# EAGLE library part SIM800C (library SIM800C)
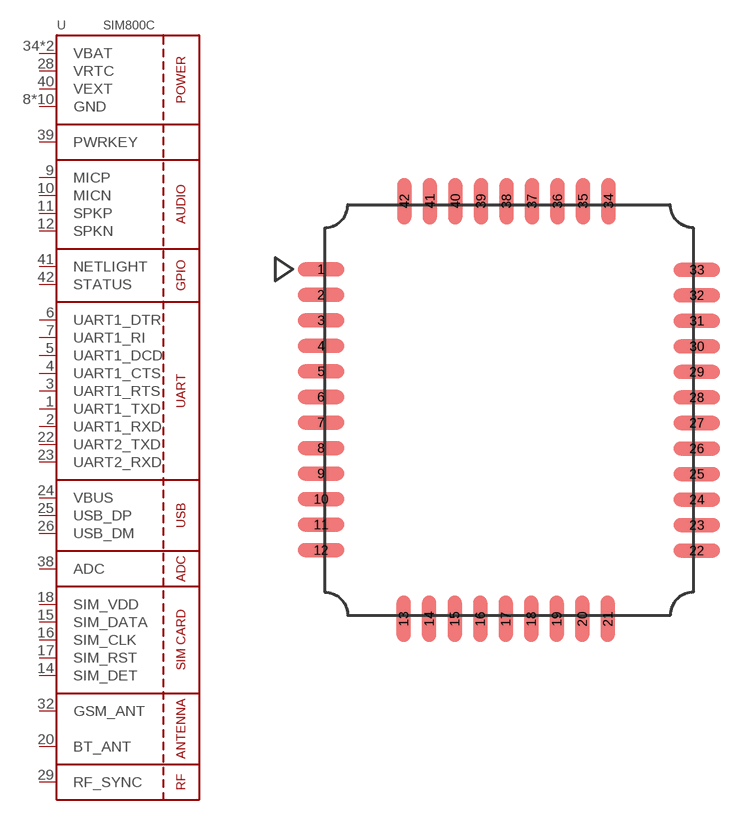
[diagram p0: symbol with the pads of SIM800C; footprint SIM800C]

Designator prefix -

## SIM800C  [SIM800C]
1  UART1_TXD  out
2  UART1_RXD  in
3  UART1_RTS  in
4  UART1_CTS  out
5  UART1_DCD  out
6  UART1_DTR  in
7  UART1_RI  out
8  GND  pwr
9  MICP  in
10  MICN  in
11  SPKP  out
12  SPKN  out
13  GND  pwr
14  SIM_DET  in
15  SIM_DATA
16  SIM_CLK  out
17  SIM_RST  out
18  SIM_VDD  pwr
19  GND  pwr
20  BT_ANT
21  GND  pwr
22  UART2_TXD  out
23  UART2_RXD  in
24  VBUS  pwr
25  USB_DP
26  USB_DM
27  GND  pwr
28  VRTC  pwr
29  RF_SYNC  out
30  GND  pwr
31  GND  pwr
32  GSM_ANT
33  GND  pwr
34  VBAT  pwr
35  VBAT  pwr
36  GND  pwr
37  GND  pwr
38  ADC  in
39  PWRKEY  in
40  VEXT  pwr
41  NETLIGHT  out
42  STATUS  out

## Footprint SIM800C (pad centres in mm)
smd 2 x 0.6: 1 -7.95,5.71; 2 -7.95,4.61; 3 -7.95,3.51; 4 -7.95,2.41; 5 -7.95,1.31; 6 -7.95,0.21; 7 -7.95,-0.89; 8 -7.95,-1.99; 9 -7.95,-3.09; 10 -7.95,-4.19; 11 -7.95,-5.29; 12 -7.95,-6.39; 22 8.25,-6.41; 23 8.25,-5.31; 24 8.25,-4.21; 25 8.25,-3.11; 26 8.25,-2.01; 27 8.25,-0.91; 28 8.25,0.19; 29 8.25,1.29; 30 8.25,2.39; 31 8.25,3.49; 32 8.25,4.59; 33 8.25,5.69
smd 0.6 x 2: 13 -4.39,-9.35; 14 -3.29,-9.35; 15 -2.19,-9.35; 16 -1.09,-9.35; 17 0.01,-9.35; 18 1.11,-9.35; 19 2.21,-9.35; 20 3.31,-9.35; 21 4.41,-9.35; 34 4.44,8.65; 35 3.34,8.65; 36 2.24,8.65; 37 1.14,8.65; 38 0.04,8.65; 39 -1.06,8.65; 40 -2.16,8.65; 41 -3.26,8.65; 42 -4.36,8.65